# Altium schematic symbol library Resistors.SchLib: 129 symbols (part 1 of 3)
Pins are listed as number, name and electrical type; pins without a type are passive.

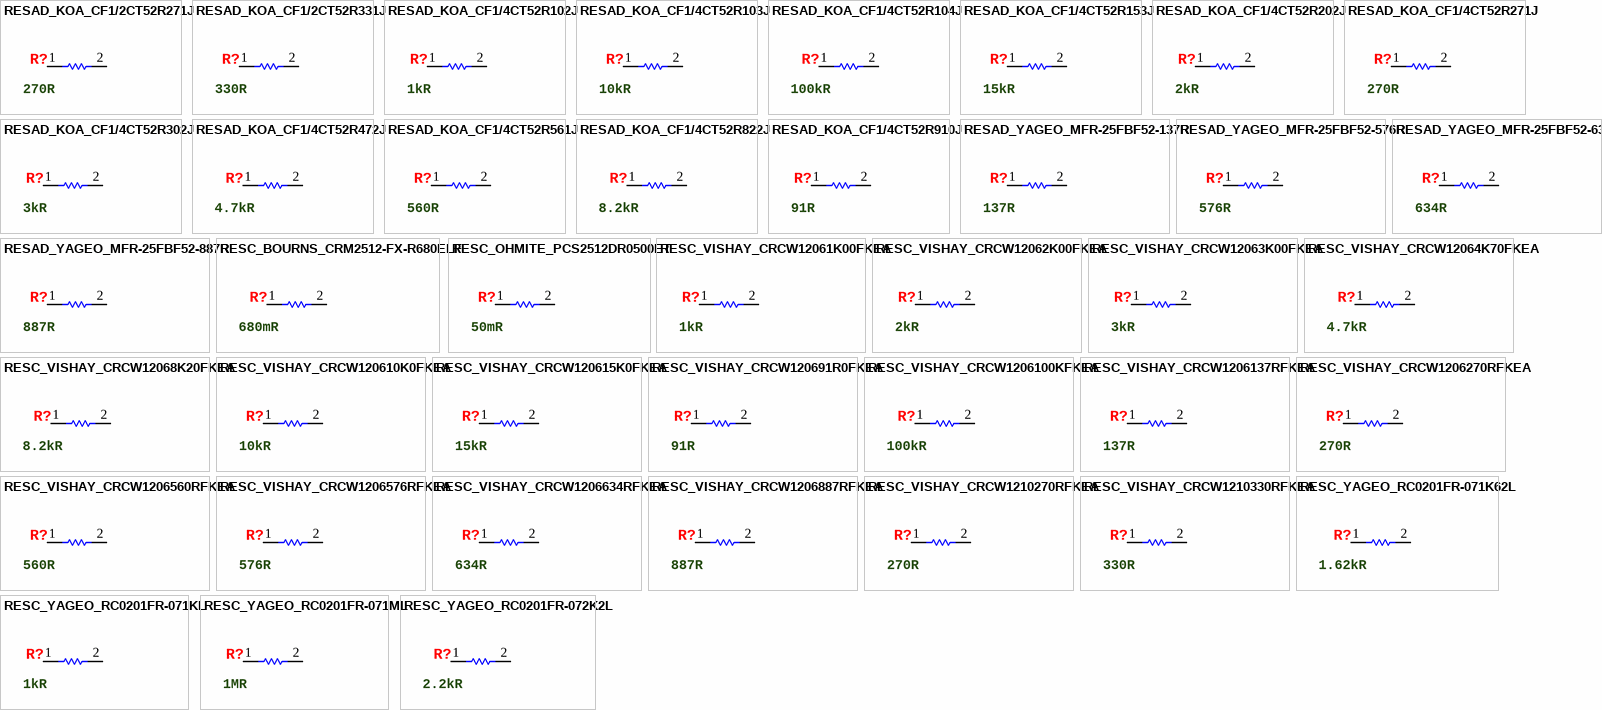
[diagram p0: symbols RESAD_KOA_CF1/2CT52R271J to RESC_YAGEO_RC0201FR-072K2L]

## RESAD_KOA_CF1/2CT52R271J
designator R?, comment 270R
270 Ohms ±5% 0.5W, 1/2W Through Hole Resistor Axial Carbon Film; Manufacturer: KOA Speer; Manufacturer Part Number: CF1/2CT52R271J; Power Rating: 500mW; Temperature Coefficient: 350ppm/°C; Voltage Rating (DC): 400V; Category: Through-Hole Resistors; Mounting Type: Through Hole; Case/Package: Axial; Min Operating Temperature: -55°C; Max Operating Temperature: 155°C; Resistance: 270R; Tolerance: 5%; Resistor Type: Carbon Film; RoHS Compliant: Yes; ComponentLink1URL: https://download.datasheets.com/pdfs/2008/05/08/urlc/koa/res46.pdf; ComponentLink1Description: Datasheet; Supplier 1: Digi-Key; Supplier 2: Mouser; Supplier Part Number 1: 2019-CF1/2CT52R271JCT-ND; Supplier Part Number 2: 660-CF1/2CT52R271J
footprint RESAD1270W70L850T300-270R (Resistor, Axial Diameter; Lead Spacing 12.70mm, Lead Width 0.7mm, Body Length 8.50mm, Body Diameter 3mm - 270 Ohm)
simulation model Resistor (Model Description)
pins: 1, 2

## RESAD_KOA_CF1/2CT52R331J
designator R?, comment 330R
330 Ohms ±5% 0.5W, 1/2W Through Hole Resistor Axial Carbon Film; Manufacturer: KOA Speer; Manufacturer Part Number: CF1/2CT52R331J; Power Rating: 500mW; Temperature Coefficient: 350ppm/°C; Voltage Rating (DC): 400V; Category: Through-Hole Resistors; Mounting Type: Through Hole; Case/Package: Axial; Min Operating Temperature: -55°C; Max Operating Temperature: 155°C; Resistance: 330R; Tolerance: 5%; Resistor Type: Carbon Film; RoHS Compliant: Yes; ComponentLink1URL: https://download.datasheets.com/pdfs/2008/05/08/urlc/koa/res46.pdf; ComponentLink1Description: Datasheet; Supplier 1: Digi-Key; Supplier 2: Mouser; Supplier Part Number 1: 2019-CF1/2CT52R331JCT-ND; Supplier Part Number 2: 660-CF1/2CT52R331J
simulation model Resistor (Model Description)
footprint RESAD1270W70L850T300-330R (Resistor, Axial Diameter; Lead Spacing 12.70mm, Lead Width 0.7mm, Body Length 8.50mm, Body Diameter 3mm - 330 Ohm)
pins: 1, 2

## RESAD_KOA_CF1/4CT52R102J
designator R?, comment 1kR
1 kOhms ±5% 0.25W, 1/4W Through Hole Resistor Axial Carbon Film; Manufacturer: KOA Speer; Manufacturer Part Number: CF1/4CT52R102J; Temperature Coefficient: 350ppm/°C; Voltage Rating (DC): 300V; Power Rating: 250mW; Category: Through-Hole Resistors; Mounting Type: Through Hole; Case/Package: Axial; Min Operating Temperature: -55°C; Max Operating Temperature: 155°C; Resistor Type: Carbon Film; Resistance: 1kR; Tolerance: 5%; ComponentLink1URL: https://download.datasheets.com/pdfs/2008/05/08/urlc/koa/res46.pdf; ComponentLink1Description: Datasheet; RoHS Compliant: Yes; Supplier 1: Digi-Key; Supplier 2: Mouser; Supplier Part Number 1: 2019-CF1/4CT52R102JCT-ND; Supplier Part Number 2: 660-CF1/4CT52R102J
simulation model Resistor (Model Description)
footprint RESAD1016W60L610T230-1KR (Resistor, Axial Diameter; Lead Spacing 10.16mm, Lead Width 0.6mm, Body Length 6.10mm, Body Diameter 2.30mm - 1K Ohm)
pins: 1, 2

## RESAD_KOA_CF1/4CT52R103J
designator R?, comment 10kR
10 kOhms ±5% 0.25W, 1/4W Through Hole Resistor Axial Carbon Film; Manufacturer: KOA Speer; Manufacturer Part Number: CF1/4CT52R103J; Power Rating: 250mW; Temperature Coefficient: 350ppm/°C; Voltage Rating (DC): 250V; Category: Through-Hole Resistors; Case/Package: Axial; Min Operating Temperature: -55°C; Max Operating Temperature: 155°C; Tolerance: 5%; Resistance: 10kR; Resistor Type: Carbon Film; RoHS Compliant: Yes; ComponentLink1URL: https://download.datasheets.com/pdfs/2008/05/08/urlc/koa/res46.pdf; ComponentLink1Description: Datasheet; Mounting Type: Through Hole; Supplier 1: Digi-Key; Supplier 2: Mouser; Supplier Part Number 1: 2019-CF1/4CT52R103JCT-ND; Supplier Part Number 2: 660-CF1/4CT52R103J
footprint RESAD1016W60L610T230-10KR (Resistor, Axial Diameter; Lead Spacing 10.16mm, Lead Width 0.6mm, Body Length 6.10mm, Body Diameter 2.30mm - 10K Ohm)
simulation model Resistor (Model Description)
pins: 1, 2

## RESAD_KOA_CF1/4CT52R104J
designator R?, comment 100kR
100 kOhms ±5% 0.25W, 1/4W Through Hole Resistor Axial Carbon Film; Manufacturer: KOA Speer; Manufacturer Part Number: CF1/4CT52R104J; Voltage Rating (DC): 250V; Temperature Coefficient: 350ppm/°C; Power Rating: 250mW; Category: Through-Hole Resistors; Case/Package: Axial; Min Operating Temperature: -55°C; Max Operating Temperature: 155°C; Resistance: 100kR; Tolerance: 5%; ComponentLink1URL: https://download.datasheets.com/pdfs/2008/05/08/urlc/koa/res46.pdf; ComponentLink1Description: Datasheet; Mounting Type: Through Hole; Resistor Type: Carbon Film; RoHS Compliant: Yes; Supplier 1: Digi-Key; Supplier 2: Mouser; Supplier Part Number 1: 2019-CF1/4CT52R104JCT-ND; Supplier Part Number 2: 660-CF1/4CT52R104J
simulation model Resistor (Model Description)
footprint RESAD1016W60L610T230-100KR (Resistor, Axial Diameter; Lead Spacing 10.16mm, Lead Width 0.6mm, Body Length 6.10mm, Body Diameter 2.30mm - 100K Ohm)
pins: 1, 2

## RESAD_KOA_CF1/4CT52R153J
designator R?, comment 15kR
15 kOhms ±5% 0.25W, 1/4W Through Hole Resistor Axial Carbon Film; Manufacturer: KOA Speer; Manufacturer Part Number: CF1/4CT52R153J; Power Rating: 250mW; Temperature Coefficient: 350ppm/°C; Voltage Rating (DC): 250V; Category: Through-Hole Resistors; Case/Package: Axial; Min Operating Temperature: -55°C; Max Operating Temperature: 155°C; Resistance: 15kR; Tolerance: 5%; Resistor Type: Carbon Film; RoHS Compliant: Yes; ComponentLink1URL: https://download.datasheets.com/pdfs/2008/05/08/urlc/koa/res46.pdf; ComponentLink1Description: Datasheet; Mounting Type: Through Hole; Supplier 1: Digi-Key; Supplier 2: Mouser; Supplier Part Number 1: 2019-CF1/4CT52R153JCT-ND; Supplier Part Number 2: 660-CF1/4CT52R153J
footprint RESAD1016W60L610T230-15KR (Resistor, Axial Diameter; Lead Spacing 10.16mm, Lead Width 0.6mm, Body Length 6.10mm, Body Diameter 2.30mm - 15K Ohm)
simulation model Resistor (Model Description)
pins: 1, 2

## RESAD_KOA_CF1/4CT52R202J
designator R?, comment 2kR
2 kOhms ±5% 0.25W, 1/4W Through Hole Resistor Axial Carbon Film; Manufacturer: KOA Speer; Manufacturer Part Number: CF1/4CT52R202J; Power Rating: 250mW; Temperature Coefficient: 350ppm/°C; Voltage Rating (DC): 250V; Category: Through-Hole Resistors; Case/Package: Axial; Min Operating Temperature: -55°C; Max Operating Temperature: 155°C; Resistance: 2kR; Tolerance: 5%; Resistor Type: Carbon Film; RoHS Compliant: Yes; ComponentLink1URL: https://download.datasheets.com/pdfs/2008/05/08/urlc/koa/res46.pdf; ComponentLink1Description: Datasheet; Mounting Type: Through Hole; Supplier 1: Digi-Key; Supplier 2: Mouser; Supplier Part Number 1: 2019-CF1/4CT52R202JCT-ND; Supplier Part Number 2: 660-CF1/4CT52R202J
simulation model Resistor (Model Description)
footprint RESAD1016W60L610T230-2KR (Resistor, Axial Diameter; Lead Spacing 10.16mm, Lead Width 0.6mm, Body Length 6.10mm, Body Diameter 2.30mm - 2K Ohm)
pins: 1, 2

## RESAD_KOA_CF1/4CT52R271J
designator R?, comment 270R
270 Ohms ±5% 0.25W, 1/4W Through Hole Resistor Axial Carbon Film; Manufacturer: KOA Speer; Manufacturer Part Number: CF1/4CT52R271J; Power Rating: 250mW; Temperature Coefficient: 350ppm/°C; Voltage Rating (DC): 250V; Category: Through-Hole Resistors; Case/Package: Axial; Min Operating Temperature: -55°C; Max Operating Temperature: 155°C; Resistance: 270R; Tolerance: 5%; Resistor Type: Carbon Film; RoHS Compliant: Yes; ComponentLink1URL: https://download.datasheets.com/pdfs/2008/05/08/urlc/koa/res46.pdf; ComponentLink1Description: Datasheet; Mounting Type: Through Hole; Supplier 1: Digi-Key; Supplier 2: Mouser; Supplier Part Number 1: 2019-CF1/4CT52R271JCT-ND; Supplier Part Number 2: 660-CF1/4CT52R271J
footprint RESAD1016W60L610T230-270R (Resistor, Axial Diameter; Lead Spacing 10.16mm, Lead Width 0.6mm, Body Length 6.10mm, Body Diameter 2.30mm - 270 Ohm)
simulation model Resistor (Model Description)
pins: 1, 2

## RESAD_KOA_CF1/4CT52R302J
designator R?, comment 3kR
3 kOhms ±5% 0.25W, 1/4W Through Hole Resistor Axial Carbon Film; Manufacturer: KOA Speer; Manufacturer Part Number: CF1/4CT52R302J; Power Rating: 250mW; Temperature Coefficient: 350ppm/°C; Voltage Rating (DC): 250V; Category: Through-Hole Resistors; Case/Package: Axial; Min Operating Temperature: -55°C; Max Operating Temperature: 155°C; Resistance: 3kR; Tolerance: 5%; Resistor Type: Carbon Film; RoHS Compliant: Yes; ComponentLink1URL: https://download.datasheets.com/pdfs/2008/05/08/urlc/koa/res46.pdf; ComponentLink1Description: Datasheet; Mounting Type: Through Hole; Supplier 1: Digi-Key; Supplier 2: Mouser; Supplier Part Number 1: 2019-CF1/4CT52R302JCT-ND; Supplier Part Number 2: 660-CF1/4CT52R302J
simulation model Resistor (Model Description)
footprint RESAD1016W60L610T230-3KR (Resistor, Axial Diameter; Lead Spacing 10.16mm, Lead Width 0.6mm, Body Length 6.10mm, Body Diameter 2.30mm - 3.3 KOhm)
pins: 1, 2

## RESAD_KOA_CF1/4CT52R472J
designator R?, comment 4.7kR
4.7 kOhms ±5% 0.25W, 1/4W Through Hole Resistor Axial Carbon Film; Manufacturer: KOA Speer; Manufacturer Part Number: CF1/4CT52R472J; Power Rating: 250mW; Temperature Coefficient: 350ppm/°C; Voltage Rating (DC): 250V; Category: Through-Hole Resistors; Case/Package: Axial; Min Operating Temperature: -55°C; Max Operating Temperature: 155°C; Resistance: 4.7kR; Tolerance: 5%; Resistor Type: Carbon Film; RoHS Compliant: Yes; ComponentLink1URL: https://download.datasheets.com/pdfs/2008/05/08/urlc/koa/res46.pdf; ComponentLink1Description: Datasheet; Mounting Type: Through Hole; Supplier 1: Digi-Key; Supplier 2: Mouser; Supplier Part Number 1: 2019-CF1/4CT52R472JCT-ND; Supplier Part Number 2: 660-CF1/4CT52R472J
footprint RESAD1016W60L610T230-4.7KR (Resistor, Axial Diameter; Lead Spacing 10.16mm, Lead Width 0.6mm, Body Length 6.10mm, Body Diameter 2.30mm - 4.7 KOhm)
simulation model Resistor (Model Description)
pins: 1, 2

## RESAD_KOA_CF1/4CT52R561J
designator R?, comment 560R
560 Ohms ±5% 0.25W, 1/4W Through Hole Resistor Axial Carbon Film; Manufacturer: KOA Speer; Manufacturer Part Number: CF1/4CT52R561J; Power Rating: 250mW; Temperature Coefficient: 350ppm/°C; Voltage Rating (DC): 250V; Category: Through-Hole Resistors; Case/Package: Axial; Min Operating Temperature: -55°C; Max Operating Temperature: 155°C; Resistance: 560R; Tolerance: 5%; Resistor Type: Carbon Film; RoHS Compliant: Yes; ComponentLink1URL: https://download.datasheets.com/pdfs/2008/05/08/urlc/koa/res46.pdf; ComponentLink1Description: Datasheet; Mounting Type: Through Hole; Supplier 1: Digi-Key; Supplier 2: Mouser; Supplier Part Number 1: 2019-CF1/4CT52R561JCT-ND; Supplier Part Number 2: 660-CF1/4CT52R561J
simulation model Resistor (Model Description)
footprint RESAD1016W60L610T230-560R (Resistor, Axial Diameter; Lead Spacing 10.16mm, Lead Width 0.6mm, Body Length 6.10mm, Body Diameter 2.30mm - 560 Ohm)
pins: 1, 2

## RESAD_KOA_CF1/4CT52R822J
designator R?, comment 8.2kR
8.2 kOhms ±5% 0.25W, 1/4W Through Hole Resistor Axial Carbon Film; Manufacturer: KOA Speer; Manufacturer Part Number: CF1/4CT52R822J; Power Rating: 250mW; Temperature Coefficient: 350ppm/°C; Voltage Rating (DC): 250V; Category: Through-Hole Resistors; Case/Package: Axial; Min Operating Temperature: -55°C; Max Operating Temperature: 155°C; Resistance: 8.2kR; Tolerance: 5%; Resistor Type: Carbon Film; RoHS Compliant: Yes; ComponentLink1URL: https://download.datasheets.com/pdfs/2008/05/08/urlc/koa/res46.pdf; ComponentLink1Description: Datasheet; Mounting Type: Through Hole; Supplier 1: Digi-Key; Supplier 2: Mouser; Supplier Part Number 1: 2019-CF1/4CT52R822JCT-ND; Supplier Part Number 2: 660-CF1/4CT52R822J
footprint RESAD1016W60L610T230-8.2KR (Resistor, Axial Diameter; Lead Spacing 10.16mm, Lead Width 0.6mm, Body Length 6.10mm, Body Diameter 2.30mm - 8.2K Ohm)
simulation model Resistor (Model Description)
pins: 1, 2

## RESAD_KOA_CF1/4CT52R910J
designator R?, comment 91R
91 Ohms ±5% 0.25W, 1/4W Through Hole Resistor Axial Carbon Film; Manufacturer: KOA Speer; Manufacturer Part Number: CF1/4CT52R910J; Power Rating: 250mW; Temperature Coefficient: 350ppm/°C; Voltage Rating (DC): 250V; Category: Through-Hole Resistors; Min Operating Temperature: -55°C; Max Operating Temperature: 155°C; Resistance: 91R; Tolerance: 5%; Resistor Type: Carbon Film; RoHS Compliant: Yes; ComponentLink1URL: https://download.datasheets.com/pdfs/2008/05/08/urlc/koa/res46.pdf; ComponentLink1Description: Datasheet; Case/Package: Axial; Mounting Type: Through Hole; Supplier 1: Digi-Key; Supplier 2: Mouser; Supplier Part Number 1: 2019-CF1/4CT52R910JCT-ND; Supplier Part Number 2: 660-CF1/4CT52R910J
simulation model Resistor (Model Description)
footprint RESAD1016W60L610T230-91R (Resistor, Axial Diameter; Lead Spacing 10.16mm, Lead Width 0.6mm, Body Length 6.10mm, Body Diameter 2.30mm - 100 Ohm)
pins: 1, 2

## RESAD_YAGEO_MFR-25FBF52-137R
designator R?, comment 137R
137 Ohms ±1% 0.25W, 1/4W Through Hole Resistor Axial Metal Film; Manufacturer: Yageo; Manufacturer Part Number: MFR-25FBF52-137R; Voltage Rating (DC): 200V; Power Rating: 250mW; Temperature Coefficient: 100ppm/°C; Category: Through-Hole Resistors; Case/Package: Axial; Min Operating Temperature: -55°C; Max Operating Temperature: 155°C; Resistance: 137R; Tolerance: 1%; Resistor Type: Metal Film; ComponentLink1URL: https://www.yageo.com/upload/media/product/productsearch/datasheet/lr/YAGEO%20MFR_datasheet_2021v1.pdf; ComponentLink1Description: Datasheet; Mounting Type: Through Hole; Supplier 1: Digi-Key; Supplier 2: Mouser; Supplier Part Number 1: 137XBK-ND; Supplier Part Number 2: 603-MFR-25FBF52-137R; RoHS Compliant: Yes
simulation model Resistor (Model Description)
footprint RESAD762W60L630T240-137R-1% (Resistor, Axial Diameter; Lead Spacing 7.62mm, Lead Width 0.6mm, Body Length 6.30mm, Body Diameter 2.40mm - 137 Ohm 1% Tolerance)
pins: 1, 2

## RESAD_YAGEO_MFR-25FBF52-576R
designator R?, comment 576R
576 Ohms ±1% 0.25W, 1/4W Through Hole Resistor Axial Metal Film; Manufacturer: Yageo; Manufacturer Part Number: MFR-25FBF52-576R; Power Rating: 250mW; Voltage Rating (DC): 200V; Temperature Coefficient: 100ppm/°C; Category: Through-Hole Resistors; Case/Package: Axial; Min Operating Temperature: -55°C; Max Operating Temperature: 155°C; Resistance: 576R; Tolerance: 1%; Resistor Type: Metal Film; ComponentLink1URL: https://www.yageo.com/upload/media/product/productsearch/datasheet/lr/YAGEO%20MFR_datasheet_2021v1.pdf; ComponentLink1Description: Datasheet; Mounting Type: Through Hole; RoHS Compliant: Yes; Supplier 1: Digi-Key; Supplier 2: Mouser; Supplier Part Number 1: 576XBK-ND; Supplier Part Number 2: 603-MFR-25FBF52-576R
footprint RESAD762W60L630T240-576R-1% (Resistor, Axial Diameter; Lead Spacing 7.62mm, Lead Width 0.6mm, Body Length 6.30mm, Body Diameter 2.40mm - 576 Ohm 1% Tolerance)
simulation model Resistor (Model Description)
pins: 1, 2

## RESAD_YAGEO_MFR-25FBF52-634R
designator R?, comment 634R
634 Ohms ±1% 0.25W, 1/4W Through Hole Resistor Axial Metal Film; Manufacturer: Yageo; Manufacturer Part Number: MFR-25FBF52-634R; Power Rating: 250mW; Temperature Coefficient: 100ppm/°C; Voltage Rating (DC): 200V; Category: Through-Hole Resistors; Case/Package: Axial; Min Operating Temperature: -55°C; Max Operating Temperature: 155°C; Resistance: 634R; Tolerance: 1%; Resistor Type: Metal Film; RoHS Compliant: Yes; ComponentLink1URL: https://www.yageo.com/upload/media/product/productsearch/datasheet/lr/YAGEO%20MFR_datasheet_2021v1.pdf; ComponentLink1Description: Datasheet; Mounting Type: Through Hole; Supplier 1: Digi-Key; Supplier 2: Mouser; Supplier Part Number 1: 634XBK-ND; Supplier Part Number 2: 603-MFR-25FBF52-634R
simulation model Resistor (Model Description)
footprint RESAD762W60L630T240-634R-1% (Resistor, Axial Diameter; Lead Spacing 7.62mm, Lead Width 0.6mm, Body Length 6.30mm, Body Diameter 2.40mm - 634 Ohm 1% Tolerance)
pins: 1, 2

## RESAD_YAGEO_MFR-25FBF52-887R
designator R?, comment 887R
887 Ohms ±1% 0.25W, 1/4W Through Hole Resistor Axial Metal Film; Manufacturer: Yageo; Manufacturer Part Number: MFR-25FBF52-887R; Voltage Rating (DC): 200V; Power Rating: 250mW; Temperature Coefficient: 100ppm/°C; Category: Through-Hole Resistors; Case/Package: Axial; Min Operating Temperature: -55°C; Max Operating Temperature: 155°C; Resistance: 887R; Tolerance: 1%; Resistor Type: Metal Film; ComponentLink1URL: https://www.yageo.com/upload/media/product/productsearch/datasheet/lr/YAGEO%20MFR_datasheet_2021v1.pdf; ComponentLink1Description: Datasheet; Mounting Type: Through Hole; RoHS Compliant: Yes; Supplier 1: Digi-Key; Supplier 2: Mouser; Supplier Part Number 1: 13-MFR-25FBF52-887R-ND; Supplier Part Number 2: 603-MFR-25FBF52-887R
footprint RESAD762W60L630T240-887R-1% (Resistor, Axial Diameter; Lead Spacing 7.62mm, Lead Width 0.6mm, Body Length 6.30mm, Body Diameter 2.40mm - 887 Ohm 1% Tolerance)
simulation model Resistor (Model Description)
pins: 1, 2

## RESC_BOURNS_CRM2512-FX-R680ELF
designator R?, comment 680mR
680 mOhms ±1% 2W Chip Resistor 2512 (6432 Metric) Current Sense Thick Film; Manufacturer: Bourns; Manufacturer Part Number: CRM2512-FX-R680ELF; Temperature Coefficient: 100ppm/°C; Voltage Rating (DC): 300V; Current Rating: 2A; Category: Chip SMD Resistors; Case/Package: 2512; Min Operating Temperature: -55°C; Max Operating Temperature: 155°C; Resistance: 680mR; Tolerance: 1%; Power Rating: 2W; Resistor Type: Thick Film; RoHS Compliant: Yes; ComponentLink1URL: https://www.bourns.com/docs/product-datasheets/crm.pdf; ComponentLink1Description: Datasheet; Supplier 1: Digi-Key; Supplier 2: Mouser; Supplier Part Number 1: 118-CRM2512-FX-R680ELFCT-ND; Supplier Part Number 2: 652-CRM2512FXR680ELF; Mounting Type: SMD/SMT
footprint RESC6431X65N (Chip Resistor, EIA 2512, Metric 6432, Body 6.35x3.10mm, IPC Medium Density)
footprint RESC6431X65L (Chip Resistor, EIA 2512, Metric 6432, Body 6.35x3.10mm, IPC High Density)
footprint RESC6431X65M (Chip Resistor, EIA 2512, Metric 6432, Body 6.35x3.10mm, IPC Low Density)
simulation model Resistor (Model Description)
pins: 1, 2

## RESC_OHMITE_PCS2512DR0500ET
designator R?, comment 50mR
50 mOhms ±0.5% 2W Chip Resistor 2512 (6432 Metric) Current Sense Metal Film; Manufacturer: Ohmite; Manufacturer Part Number: PCS2512DR0500ET; Temperature Coefficient: 50ppm/°C; Current Rating: 2A; Category: Chip SMD Resistors; ComponentLink1Description: Datasheet; ComponentLink1URL: https://www.ohmite.com/assets/docs/res_pcs.pdf?r=false; Max Operating Temperature: 170°C; Min Operating Temperature: -55°C; Power Rating: 2W; Resistance: 50mR; Resistor Type: Metal Film; Tolerance: 0.5%; RoHS Compliant: Yes; Case/Package: 2512; Supplier 1: Digi-Key; Supplier Part Number 1: 273-PCS2512DR0500ETCT-ND; Supplier 2: Mouser; Supplier Part Number 2: 588-PCS2512DR0500ET; Mounting Type: SMD/SMT
footprint RESC6431X65N (Chip Resistor, EIA 2512, Metric 6432, Body 6.35x3.10mm, IPC Medium Density)
footprint RESC6431X65M (Chip Resistor, EIA 2512, Metric 6432, Body 6.35x3.10mm, IPC Low Density)
footprint RESC6431X65L (Chip Resistor, EIA 2512, Metric 6432, Body 6.35x3.10mm, IPC High Density)
simulation model Resistor (Model Description)
pins: 1, 2

## RESC_VISHAY_CRCW12061K00FKEA
designator R?, comment 1kR
1 kOhms ±1% 0.25W, 1/4W Chip Resistor 1206 (3216 Metric) Automotive AEC-Q200 Thick Film; Manufacturer: Vishay; Manufacturer Part Number: CRCW12061K00FKEA; Temperature Coefficient: 100ppm/°C; Power Rating: 250mW; Voltage Rating (DC): 200V; Category: Chip SMD Resistors; Case/Package: 1206; Min Operating Temperature: -55°C; Max Operating Temperature: 155°C; Tolerance: 1%; Resistor Type: Thick Film; Resistance: 1kR; RoHS Compliant: Yes; ComponentLink1URL: https://www.vishay.com/docs/20035/dcrcwe3.pdf; ComponentLink1Description: Datasheet; Mounting Type: SMD/SMT; Supplier 1: Digi-Key; Supplier 2: Mouser; Supplier Part Number 1: 541-1.00KFCT-ND; Supplier Part Number 2: 71-CRCW1206-1.0K-E3
simulation model Resistor (Model Description)
footprint RESC3216X60N (Chip Resistor, 2-Leads, Body 3.15x1.60mm, IPC Medium Density)
footprint RESC3216X60L (Chip Resistor, 2-Leads, Body 3.15x1.60mm, IPC High Density)
footprint RESC3216X60M (Chip Resistor, 2-Leads, Body 3.15x1.60mm, IPC Low Density)
pins: 1, 2

## RESC_VISHAY_CRCW12062K00FKEA
designator R?, comment 2kR
2 kOhms ±1% 0.25W, 1/4W Chip Resistor 1206 (3216 Metric) Automotive AEC-Q200 Thick Film; Manufacturer: Vishay; Manufacturer Part Number: CRCW12062K00FKEA; Temperature Coefficient: 100ppm/°C; Power Rating: 250mW; Voltage Rating (DC): 200V; Category: Chip SMD Resistors; Case/Package: 1206; Min Operating Temperature: -55°C; Max Operating Temperature: 155°C; Tolerance: 1%; Resistance: 2kR; Resistor Type: Thick Film; RoHS Compliant: Yes; ComponentLink1URL: https://www.vishay.com/docs/20035/dcrcwe3.pdf; ComponentLink1Description: Datasheet; Mounting Type: SMD/SMT; Supplier 1: Digi-Key; Supplier 2: Mouser; Supplier Part Number 1: 541-2.00KFCT-ND; Supplier Part Number 2: 71-CRCW1206-2.0K-E3
simulation model Resistor (Model Description)
footprint RESC3216X60N (Chip Resistor, 2-Leads, Body 3.15x1.60mm, IPC Medium Density)
footprint RESC3216X60L (Chip Resistor, 2-Leads, Body 3.15x1.60mm, IPC High Density)
footprint RESC3216X60M (Chip Resistor, 2-Leads, Body 3.15x1.60mm, IPC Low Density)
pins: 1, 2

## RESC_VISHAY_CRCW12063K00FKEA
designator R?, comment 3kR
3 kOhms ±1% 0.25W, 1/4W Chip Resistor 1206 (3216 Metric) Automotive AEC-Q200 Thick Film; Manufacturer: Vishay; Manufacturer Part Number: CRCW12063K00FKEA; Power Rating: 250mW; Temperature Coefficient: 100ppm/°C; Voltage Rating (DC): 200V; Category: Chip SMD Resistors; Case/Package: 1206; Min Operating Temperature: -55°C; Max Operating Temperature: 155°C; Resistance: 3kR; Tolerance: 1%; Resistor Type: Thick Film; ComponentLink1URL: https://www.vishay.com/docs/20035/dcrcwe3.pdf; ComponentLink1Description: Datasheet; Mounting Type: SMD/SMT; RoHS Compliant: Yes; Supplier 1: Digi-Key; Supplier 2: Mouser; Supplier Part Number 1: 541-3.00KFCT-ND; Supplier Part Number 2: 71-CRCW1206-3K-E3
footprint RESC3216X60N (Chip Resistor, 2-Leads, Body 3.15x1.60mm, IPC Medium Density)
footprint RESC3216X60L (Chip Resistor, 2-Leads, Body 3.15x1.60mm, IPC High Density)
footprint RESC3216X60M (Chip Resistor, 2-Leads, Body 3.15x1.60mm, IPC Low Density)
simulation model Resistor (Model Description)
pins: 1, 2

## RESC_VISHAY_CRCW12064K70FKEA
designator R?, comment 4.7kR
4.7 kOhms ±1% 0.25W, 1/4W Chip Resistor 1206 (3216 Metric) Automotive AEC-Q200 Thick Film; Manufacturer: Vishay; Manufacturer Part Number: CRCW12064K70FKEA; Power Rating: 250mW; Temperature Coefficient: 100ppm/°C; Voltage Rating (DC): 200V; Category: Chip SMD Resistors; Case/Package: 1206; Min Operating Temperature: -55°C; Max Operating Temperature: 155°C; Tolerance: 1%; Resistance: 4.7kR; Resistor Type: Thick Film; RoHS Compliant: Yes; ComponentLink1Description: Datasheet; ComponentLink1URL: https://www.vishay.com/docs/20035/dcrcwe3.pdf; Mounting Type: SMD/SMT; Supplier 1: Digi-Key; Supplier 2: Mouser; Supplier Part Number 1: 541-4.70KFCT-ND; Supplier Part Number 2: 71-CRCW1206-4.7K-E3
simulation model Resistor (Model Description)
footprint RESC3216X60N (Chip Resistor, 2-Leads, Body 3.15x1.60mm, IPC Medium Density)
footprint RESC3216X60L (Chip Resistor, 2-Leads, Body 3.15x1.60mm, IPC High Density)
footprint RESC3216X60M (Chip Resistor, 2-Leads, Body 3.15x1.60mm, IPC Low Density)
pins: 1, 2

## RESC_VISHAY_CRCW12068K20FKEA
designator R?, comment 8.2kR
8.2 kOhms ±1% 0.25W, 1/4W Chip Resistor 1206 (3216 Metric) Automotive AEC-Q200 Thick Film; Manufacturer: Vishay; Manufacturer Part Number: CRCW12068K20FKEA; Power Rating: 250mW; Temperature Coefficient: 100ppm/°C; Voltage Rating (DC): 200V; Category: Chip SMD Resistors; Case/Package: 1206; Min Operating Temperature: -55°C; Max Operating Temperature: 155°C; Resistance: 8.2kR; Tolerance: 1%; Resistor Type: Thick Film; RoHS Compliant: Yes; ComponentLink1Description: Datasheet; ComponentLink1URL: https://www.vishay.com/docs/20035/dcrcwe3.pdf; Mounting Type: SMD/SMT; Supplier 1: Digi-Key; Supplier 2: Mouser; Supplier Part Number 1: 541-8.20KFCT-ND; Supplier Part Number 2: 71-CRCW1206-8.2K-E3
footprint RESC3216X60N (Chip Resistor, 2-Leads, Body 3.15x1.60mm, IPC Medium Density)
footprint RESC3216X60L (Chip Resistor, 2-Leads, Body 3.15x1.60mm, IPC High Density)
footprint RESC3216X60M (Chip Resistor, 2-Leads, Body 3.15x1.60mm, IPC Low Density)
simulation model Resistor (Model Description)
pins: 1, 2

## RESC_VISHAY_CRCW120610K0FKEA
designator R?, comment 10kR
10 kOhms ±1% 0.25W, 1/4W Chip Resistor 1206 (3216 Metric) Automotive AEC-Q200 Thick Film; Manufacturer: Vishay; Manufacturer Part Number: CRCW120610K0FKEAHP; Power Rating: 500mW; Temperature Coefficient: 100ppm/°C; Voltage Rating (DC): 200V; Category: Chip SMD Resistors; Case/Package: 1206; Min Operating Temperature: -55°C; Max Operating Temperature: 155°C; Resistance: 10kR; Tolerance: 1%; Resistor Type: Thick Film; RoHS Compliant: Yes; ComponentLink1Description: Datasheet; ComponentLink1URL: https://www.vishay.com/docs/20035/dcrcwe3.pdf; Mounting Type: SMD/SMT; Supplier 1: Digi-Key; Supplier 2: Mouser; Supplier Part Number 1: 541-10.0KFCT-ND; Supplier Part Number 2: 71-CRCW1206-10K-E3
simulation model Resistor (Model Description)
footprint RESC3216X60N (Chip Resistor, 2-Leads, Body 3.15x1.60mm, IPC Medium Density)
footprint RESC3216X60L (Chip Resistor, 2-Leads, Body 3.15x1.60mm, IPC High Density)
footprint RESC3216X60M (Chip Resistor, 2-Leads, Body 3.15x1.60mm, IPC Low Density)
pins: 1, 2

## RESC_VISHAY_CRCW120615K0FKEA
designator R?, comment 15kR
15 kOhms ±1% 0.25W, 1/4W Chip Resistor 1206 (3216 Metric) Automotive AEC-Q200 Thick Film; Manufacturer: Vishay; Manufacturer Part Number: CRCW120615K0FKEA; Temperature Coefficient: 100ppm/°C; Power Rating: 250mW; Voltage Rating (DC): 200V; Category: Chip SMD Resistors; Case/Package: 1206; Min Operating Temperature: -55°C; Max Operating Temperature: 155°C; Resistor Type: Thick Film; Tolerance: 1%; Resistance: 15kR; RoHS Compliant: Yes; ComponentLink1Description: Datasheet; ComponentLink1URL: https://www.vishay.com/docs/20035/dcrcwe3.pdf; Mounting Type: SMD/SMT; Supplier 1: Digi-Key; Supplier 2: Mouser; Supplier Part Number 1: 541-15.0KFCT-ND; Supplier Part Number 2: 71-CRCW1206-15K-E3
footprint RESC3216X60N (Chip Resistor, 2-Leads, Body 3.15x1.60mm, IPC Medium Density)
footprint RESC3216X60L (Chip Resistor, 2-Leads, Body 3.15x1.60mm, IPC High Density)
footprint RESC3216X60M (Chip Resistor, 2-Leads, Body 3.15x1.60mm, IPC Low Density)
simulation model Resistor (Model Description)
pins: 1, 2

## RESC_VISHAY_CRCW120691R0FKEA
designator R?, comment 91R
91 Ohms ±1% 0.25W, 1/4W Chip Resistor 1206 (3216 Metric) Automotive AEC-Q200 Thick Film; Manufacturer: Vishay; Manufacturer Part Number: CRCW120691R0FKEA; Power Rating: 250mW; Temperature Coefficient: 100ppm/°C; Voltage Rating (DC): 200V; Category: Chip SMD Resistors; Case/Package: 1206; Min Operating Temperature: -55°C; Max Operating Temperature: 155°C; Resistance: 91R; Tolerance: 1%; Resistor Type: Thick Film; RoHS Compliant: Yes; ComponentLink1Description: Datasheet; ComponentLink1URL: https://www.vishay.com/docs/20035/dcrcwe3.pdf; Mounting Type: SMD/SMT; Supplier 1: Digi-Key; Supplier 2: Mouser; Supplier Part Number 1: 541-91.0FCT-ND; Supplier Part Number 2: 71-CRCW1206-91-E3
simulation model Resistor (Model Description)
footprint RESC3216X60N (Chip Resistor, 2-Leads, Body 3.15x1.60mm, IPC Medium Density)
footprint RESC3216X60L (Chip Resistor, 2-Leads, Body 3.15x1.60mm, IPC High Density)
footprint RESC3216X60M (Chip Resistor, 2-Leads, Body 3.15x1.60mm, IPC Low Density)
pins: 1, 2

## RESC_VISHAY_CRCW1206100KFKEA
designator R?, comment 100kR
100 kOhms ±1% 0.25W, 1/4W Chip Resistor 1206 (3216 Metric) Automotive AEC-Q200 Thick Film; Manufacturer: Vishay; Manufacturer Part Number: CRCW1206100KFKEAHP; Temperature Coefficient: 100ppm/°C; Power Rating: 500mW; Voltage Rating (DC): 200V; Category: Chip SMD Resistors; Case/Package: 1206; Min Operating Temperature: -55°C; Max Operating Temperature: 155°C; Resistance: 100kR; Tolerance: 1%; Resistor Type: Thick Film; RoHS Compliant: Yes; ComponentLink1Description: Datasheet; ComponentLink1URL: https://www.vishay.com/docs/20035/dcrcwe3.pdf; Mounting Type: SMD/SMT; Supplier 1: Digi-Key; Supplier 2: Mouser; Supplier Part Number 1: 541-100KFCT-ND; Supplier Part Number 2: 71-CRCW1206-100K-E3
footprint RESC3216X60N (Chip Resistor, 2-Leads, Body 3.15x1.60mm, IPC Medium Density)
footprint RESC3216X60L (Chip Resistor, 2-Leads, Body 3.15x1.60mm, IPC High Density)
footprint RESC3216X60M (Chip Resistor, 2-Leads, Body 3.15x1.60mm, IPC Low Density)
simulation model Resistor (Model Description)
pins: 1, 2

## RESC_VISHAY_CRCW1206137RFKEA
designator R?, comment 137R
137 Ohms ±1% 0.25W, 1/4W Chip Resistor 1206 (3216 Metric) Automotive AEC-Q200 Thick Film; Manufacturer: Vishay; Manufacturer Part Number: CRCW1206137RFKEA; Power Rating: 250mW; Temperature Coefficient: 100ppm/°C; Voltage Rating (DC): 200V; Category: Chip SMD Resistors; Case/Package: 1206; Min Operating Temperature: -55°C; Max Operating Temperature: 155°C; Resistance: 137R; Tolerance: 1%; Resistor Type: Thick Film; RoHS Compliant: Yes; ComponentLink1Description: Datasheet; ComponentLink1URL: https://www.vishay.com/docs/20035/dcrcwe3.pdf; Mounting Type: SMD/SMT; Supplier 1: Digi-Key; Supplier 2: Mouser; Supplier Part Number 1: 541-137FCT-ND; Supplier Part Number 2: 71-CRCW1206-137-E3
simulation model Resistor (Model Description)
footprint RESC3216X60N (Chip Resistor, 2-Leads, Body 3.15x1.60mm, IPC Medium Density)
footprint RESC3216X60L (Chip Resistor, 2-Leads, Body 3.15x1.60mm, IPC High Density)
footprint RESC3216X60M (Chip Resistor, 2-Leads, Body 3.15x1.60mm, IPC Low Density)
pins: 1, 2

## RESC_VISHAY_CRCW1206270RFKEA
designator R?, comment 270R
270 Ohms ±1% 0.25W, 1/4W Chip Resistor 1206 (3216 Metric) Automotive AEC-Q200 Thick Film; Manufacturer: Vishay; Manufacturer Part Number: CRCW1206270RFKEAHP; Power Rating: 500mW; Temperature Coefficient: 100ppm/°C; Voltage Rating (DC): 200V; Category: Chip SMD Resistors; Case/Package: 1206; Min Operating Temperature: -55°C; Max Operating Temperature: 155°C; Resistance: 270R; Tolerance: 1%; Resistor Type: Thick Film; RoHS Compliant: Yes; ComponentLink1Description: Datasheet; ComponentLink1URL: https://www.vishay.com/docs/20035/dcrcwe3.pdf; Mounting Type: SMD/SMT; Supplier 1: Digi-Key; Supplier 2: Mouser; Supplier Part Number 1: 541-270FCT-ND; Supplier Part Number 2: 71-CRCW1206-270-E3
footprint RESC3216X60N (Chip Resistor, 2-Leads, Body 3.15x1.60mm, IPC Medium Density)
footprint RESC3216X60L (Chip Resistor, 2-Leads, Body 3.15x1.60mm, IPC High Density)
footprint RESC3216X60M (Chip Resistor, 2-Leads, Body 3.15x1.60mm, IPC Low Density)
simulation model Resistor (Model Description)
pins: 1, 2

## RESC_VISHAY_CRCW1206560RFKEA
designator R?, comment 560R
560 Ohms ±1% 0.25W, 1/4W Chip Resistor 1206 (3216 Metric) Automotive AEC-Q200 Thick Film; Manufacturer: Vishay; Manufacturer Part Number: CRCW1206560RFKEA; Temperature Coefficient: 100ppm/°C; Power Rating: 250mW; Voltage Rating (DC): 200V; Category: Chip SMD Resistors; Case/Package: 1206; Min Operating Temperature: -55°C; Max Operating Temperature: 155°C; Resistor Type: Thick Film; Resistance: 560R; Tolerance: 1%; RoHS Compliant: Yes; ComponentLink1Description: Datasheet; ComponentLink1URL: https://www.vishay.com/docs/20035/dcrcwe3.pdf; Mounting Type: SMD/SMT; Supplier 1: Digi-Key; Supplier 2: Mouser; Supplier Part Number 1: 541-560FCT-ND; Supplier Part Number 2: 71-CRCW1206-560-E3
simulation model Resistor (Model Description)
footprint RESC3216X60N (Chip Resistor, 2-Leads, Body 3.15x1.60mm, IPC Medium Density)
footprint RESC3216X60L (Chip Resistor, 2-Leads, Body 3.15x1.60mm, IPC High Density)
footprint RESC3216X60M (Chip Resistor, 2-Leads, Body 3.15x1.60mm, IPC Low Density)
pins: 1, 2

## RESC_VISHAY_CRCW1206576RFKEA
designator R?, comment 576R
576 Ohms ±1% 0.25W, 1/4W Chip Resistor 1206 (3216 Metric) Automotive AEC-Q200 Thick Film; Manufacturer: Vishay; Manufacturer Part Number: CRCW1206576RFKEA; Temperature Coefficient: 100ppm/°C; Power Rating: 250mW; Voltage Rating (DC): 200V; Category: Chip SMD Resistors; Case/Package: 1206; Min Operating Temperature: -55°C; Max Operating Temperature: 155°C; Tolerance: 1%; Resistance: 576R; Resistor Type: Thick Film; RoHS Compliant: Yes; ComponentLink1Description: Datasheet; ComponentLink1URL: https://www.vishay.com/docs/20035/dcrcwe3.pdf; Mounting Type: SMD/SMT; Supplier 1: Digi-Key; Supplier 2: Mouser; Supplier Part Number 1: 541-576FCT-ND; Supplier Part Number 2: 71-CRCW1206576-E3
footprint RESC3216X60N (Chip Resistor, 2-Leads, Body 3.15x1.60mm, IPC Medium Density)
footprint RESC3216X60L (Chip Resistor, 2-Leads, Body 3.15x1.60mm, IPC High Density)
footprint RESC3216X60M (Chip Resistor, 2-Leads, Body 3.15x1.60mm, IPC Low Density)
simulation model Resistor (Model Description)
pins: 1, 2

## RESC_VISHAY_CRCW1206634RFKEA
designator R?, comment 634R
634 Ohms ±1% 0.25W, 1/4W Chip Resistor 1206 (3216 Metric) Automotive AEC-Q200 Thick Film; Manufacturer: Vishay; Manufacturer Part Number: CRCW1206634RFKEA; Temperature Coefficient: 100ppm/°C; Power Rating: 250mW; Voltage Rating (DC): 200V; Category: Chip SMD Resistors; Case/Package: 1206; Min Operating Temperature: -55°C; Max Operating Temperature: 155°C; Tolerance: 1%; Resistance: 634R; Resistor Type: Thick Film; RoHS Compliant: Yes; ComponentLink1Description: Datasheet; ComponentLink1URL: https://www.vishay.com/docs/20035/dcrcwe3.pdf; Mounting Type: SMD/SMT; Supplier 1: Digi-Key; Supplier 2: Mouser; Supplier Part Number 1: 541-634FCT-ND; Supplier Part Number 2: 71-CRCW1206-634-E3
simulation model Resistor (Model Description)
footprint RESC3216X60N (Chip Resistor, 2-Leads, Body 3.15x1.60mm, IPC Medium Density)
footprint RESC3216X60L (Chip Resistor, 2-Leads, Body 3.15x1.60mm, IPC High Density)
footprint RESC3216X60M (Chip Resistor, 2-Leads, Body 3.15x1.60mm, IPC Low Density)
pins: 1, 2

## RESC_VISHAY_CRCW1206887RFKEA
designator R?, comment 887R
887 Ohms ±1% 0.25W, 1/4W Chip Resistor 1206 (3216 Metric) Automotive AEC-Q200 Thick Film; Manufacturer: Vishay; Manufacturer Part Number: CRCW1206887RFKEA; Power Rating: 250mW; Temperature Coefficient: 100ppm/°C; Voltage Rating (DC): 200V; Category: Chip SMD Resistors; Case/Package: 1206; Min Operating Temperature: -55°C; Max Operating Temperature: 155°C; Resistance: 887R; Tolerance: 1%; Resistor Type: Thick Film; RoHS Compliant: Yes; ComponentLink1Description: Datasheet; ComponentLink1URL: https://www.vishay.com/docs/20035/dcrcwe3.pdf; Mounting Type: SMD/SMT; Supplier 1: Digi-Key; Supplier 2: Mouser; Supplier Part Number 1: 541-887FCT-ND; Supplier Part Number 2: 71-CRCW1206-887-E3
footprint RESC3216X60N (Chip Resistor, 2-Leads, Body 3.15x1.60mm, IPC Medium Density)
footprint RESC3216X60L (Chip Resistor, 2-Leads, Body 3.15x1.60mm, IPC High Density)
footprint RESC3216X60M (Chip Resistor, 2-Leads, Body 3.15x1.60mm, IPC Low Density)
simulation model Resistor (Model Description)
pins: 1, 2

## RESC_VISHAY_CRCW1210270RFKEA
designator R?, comment 270R
270 Ohms ±1% 0.5W, 1/2W Chip Resistor 1210 (3225 Metric) Automotive AEC-Q200 Thick Film; Manufacturer: Vishay; Manufacturer Part Number: CRCW1210270RFKEAHP; Power Rating: 750mW; Temperature Coefficient: 100ppm/°C; Voltage Rating (DC): 200V; Category: Chip SMD Resistors; Case/Package: 1210; Min Operating Temperature: -55°C; Max Operating Temperature: 155°C; Resistance: 270R; Tolerance: 1%; Resistor Type: Thick Film; RoHS Compliant: Yes; ComponentLink1Description: Datasheet; ComponentLink1URL: https://www.vishay.com/docs/20035/dcrcwe3.pdf; Mounting Type: SMD/SMT; Supplier 1: Digi-Key; Supplier 2: Mouser; Supplier Part Number 1: 541-270AACT-ND; Supplier Part Number 2: 71-CRCW1210270RFKEA
simulation model Resistor (Model Description)
footprint RESC3225X60N (Chip Resistor, EIA 1210, Metric 3225, Body 3.20x2.50mm, IPC Medium Density)
footprint RESC3225X60L (Chip Resistor, EIA 1210, Metric 3225, Body 3.20x2.50mm, IPC High Density)
footprint RESC3225X60M (Chip Resistor, EIA 1210, Metric 3225, Body 3.20x2.50mm, IPC Low Density)
pins: 1, 2

## RESC_VISHAY_CRCW1210330RFKEA
designator R?, comment 330R
330 Ohms ±1% 0.5W, 1/2W Chip Resistor 1210 (3225 Metric) Automotive AEC-Q200 Thick Film; Manufacturer: Vishay; Manufacturer Part Number: CRCW1210330RFKEA; Power Rating: 500mW; Temperature Coefficient: 100ppm/°C; Voltage Rating (DC): 200V; Category: Chip SMD Resistors; Case/Package: 1210; Min Operating Temperature: -55°C; Max Operating Temperature: 155°C; Tolerance: 1%; Resistance: 330R; Resistor Type: Thick Film; RoHS Compliant: Yes; ComponentLink1Description: Datasheet; ComponentLink1URL: https://www.vishay.com/docs/20035/dcrcwe3.pdf; Mounting Type: SMD/SMT; Supplier 1: Digi-Key; Supplier 2: Mouser; Supplier Part Number 1: 541-330AACT-ND; Supplier Part Number 2: 71-CRCW1210-330-E3
simulation model Resistor (Model Description)
footprint RESC3225X60N (Chip Resistor, EIA 1210, Metric 3225, Body 3.20x2.50mm, IPC Medium Density)
footprint RESC3225X60L (Chip Resistor, EIA 1210, Metric 3225, Body 3.20x2.50mm, IPC High Density)
footprint RESC3225X60M (Chip Resistor, EIA 1210, Metric 3225, Body 3.20x2.50mm, IPC Low Density)
pins: 1, 2

## RESC_YAGEO_RC0201FR-071K62L
designator R?, comment 1.62kR
1.62 kOhms ±1% 0.05W, 1/20W Chip Resistor 0201 (0603 Metric) Moisture Resistant Thick Film; Manufacturer: Yageo; Manufacturer Part Number: RC0201FR-071K62L; Power Rating: 50mW; Temperature Coefficient: 200ppm/°C; Current Rating: 500mA; Voltage Rating (DC): 25V; Category: Chip SMD Resistors; Case/Package: 0201; Min Operating Temperature: -55°C; Max Operating Temperature: 125°C; Resistance: 1.62kR; Tolerance: 1%; Resistor Type: Thick Film; RoHS Compliant: Yes; ComponentLink1URL: https://www.yageo.com/upload/media/product/productsearch/datasheet/rchip/PYu-RC_Group_51_RoHS_L_12.pdf; ComponentLink1Description: Datasheet; Supplier 1: Digi-Key; Supplier Part Number 1: YAG2334CT-ND; Supplier 2: Mouser; Supplier Part Number 2: 603-RC0201FR-071K62L; Mounting Type: SMD/SMT
footprint RESC0603X26N (Chip Resistor, EIA 0201, Metric 0603, Body 0.60x0.30mm, IPC Medium Density)
footprint RESC0603X26M (Chip Resistor, EIA 0201, Metric 0603, Body 0.60x0.30mm, IPC Low Density)
footprint RESC0603X26L (Chip Resistor, EIA 0201, Metric 0603, Body 0.60x0.30mm, IPC High Density)
simulation model Resistor (Model Description)
pins: 1, 2

## RESC_YAGEO_RC0201FR-071KL
designator R?, comment 1kR
1 kOhms ±1% 0.05W, 1/20W Chip Resistor 0201 (0603 Metric) Moisture Resistant Thick Film; Manufacturer: Yageo; Manufacturer Part Number: RC0201FR-071KL; Temperature Coefficient: 200ppm/°C; Power Rating: 50mW; Current Rating: 500mA; Voltage Rating (DC): 25V; Category: Chip SMD Resistors; Case/Package: 0201; Min Operating Temperature: -55°C; Max Operating Temperature: 125°C; Resistance: 1kR; Tolerance: 1%; Resistor Type: Thick Film; RoHS Compliant: Yes; ComponentLink1URL: https://www.yageo.com/upload/media/product/productsearch/datasheet/rchip/PYu-RC_Group_51_RoHS_L_12.pdf; ComponentLink1Description: Datasheet; Supplier 1: Digi-Key; Supplier Part Number 1: 311-1KMCT-ND; Supplier 2: Mouser; Supplier Part Number 2: 603-RC0201FR-071KL; Mounting Type: SMD/SMT
footprint RESC0603X26N (Chip Resistor, EIA 0201, Metric 0603, Body 0.60x0.30mm, IPC Medium Density)
footprint RESC0603X26L (Chip Resistor, EIA 0201, Metric 0603, Body 0.60x0.30mm, IPC High Density)
footprint RESC0603X26M (Chip Resistor, EIA 0201, Metric 0603, Body 0.60x0.30mm, IPC Low Density)
simulation model Resistor (Model Description)
pins: 1, 2

## RESC_YAGEO_RC0201FR-071ML
designator R?, comment 1MR
1 MOhms ±1% 0.05W, 1/20W Chip Resistor 0201 (0603 Metric) Moisture Resistant Thick Film; Manufacturer: Yageo; Manufacturer Part Number: RC0201FR-071ML; Temperature Coefficient: 200ppm/°C; Power Rating: 50mW; Current Rating: 500mA; Voltage Rating (DC): 25V; Category: Chip SMD Resistors; Case/Package: 0201; Min Operating Temperature: -55°C; Max Operating Temperature: 125°C; Resistance: 1MR; Tolerance: 1%; Resistor Type: Thick Film; RoHS Compliant: Yes; ComponentLink1URL: https://www.yageo.com/upload/media/product/productsearch/datasheet/rchip/PYu-RC_Group_51_RoHS_L_12.pdf; ComponentLink1Description: Datasheet; Supplier 1: Digi-Key; Supplier Part Number 1: 311-1MMCT-ND; Supplier 2: Mouser; Supplier Part Number 2: 603-RC0201FR-071ML; Mounting Type: SMD/SMT
footprint RESC0603X26N (Chip Resistor, EIA 0201, Metric 0603, Body 0.60x0.30mm, IPC Medium Density)
footprint RESC0603X26M (Chip Resistor, EIA 0201, Metric 0603, Body 0.60x0.30mm, IPC Low Density)
footprint RESC0603X26L (Chip Resistor, EIA 0201, Metric 0603, Body 0.60x0.30mm, IPC High Density)
simulation model Resistor (Model Description)
pins: 1, 2

## RESC_YAGEO_RC0201FR-072K2L
designator R?, comment 2.2kR
2.2 kOhms ±1% 0.05W, 1/20W Chip Resistor 0201 (0603 Metric) Moisture Resistant Thick Film; Manufacturer: Yageo; Manufacturer Part Number: RC0201FR-072K2L; Power Rating: 50mW; Temperature Coefficient: 200ppm/°C; Current Rating: 500mA; Voltage Rating (DC): 25V; Category: Chip SMD Resistors; Case/Package: 0201; Min Operating Temperature: -55°C; Max Operating Temperature: 125°C; Tolerance: 1%; Resistance: 2.2kR; Resistor Type: Thick Film; RoHS Compliant: Yes; ComponentLink1URL: https://www.yageo.com/upload/media/product/productsearch/datasheet/rchip/PYu-RC_Group_51_RoHS_L_12.pdf; ComponentLink1Description: Datasheet; Supplier 1: Digi-Key; Supplier 2: Mouser; Supplier Part Number 1: YAG2572CT-ND; Supplier Part Number 2: 603-RC0201FR-072K2L; Mounting Type: SMD/SMT
footprint RESC0603X26N (Chip Resistor, EIA 0201, Metric 0603, Body 0.60x0.30mm, IPC Medium Density)
footprint RESC0603X26M (Chip Resistor, EIA 0201, Metric 0603, Body 0.60x0.30mm, IPC Low Density)
footprint RESC0603X26L (Chip Resistor, EIA 0201, Metric 0603, Body 0.60x0.30mm, IPC High Density)
simulation model Resistor (Model Description)
pins: 1, 2

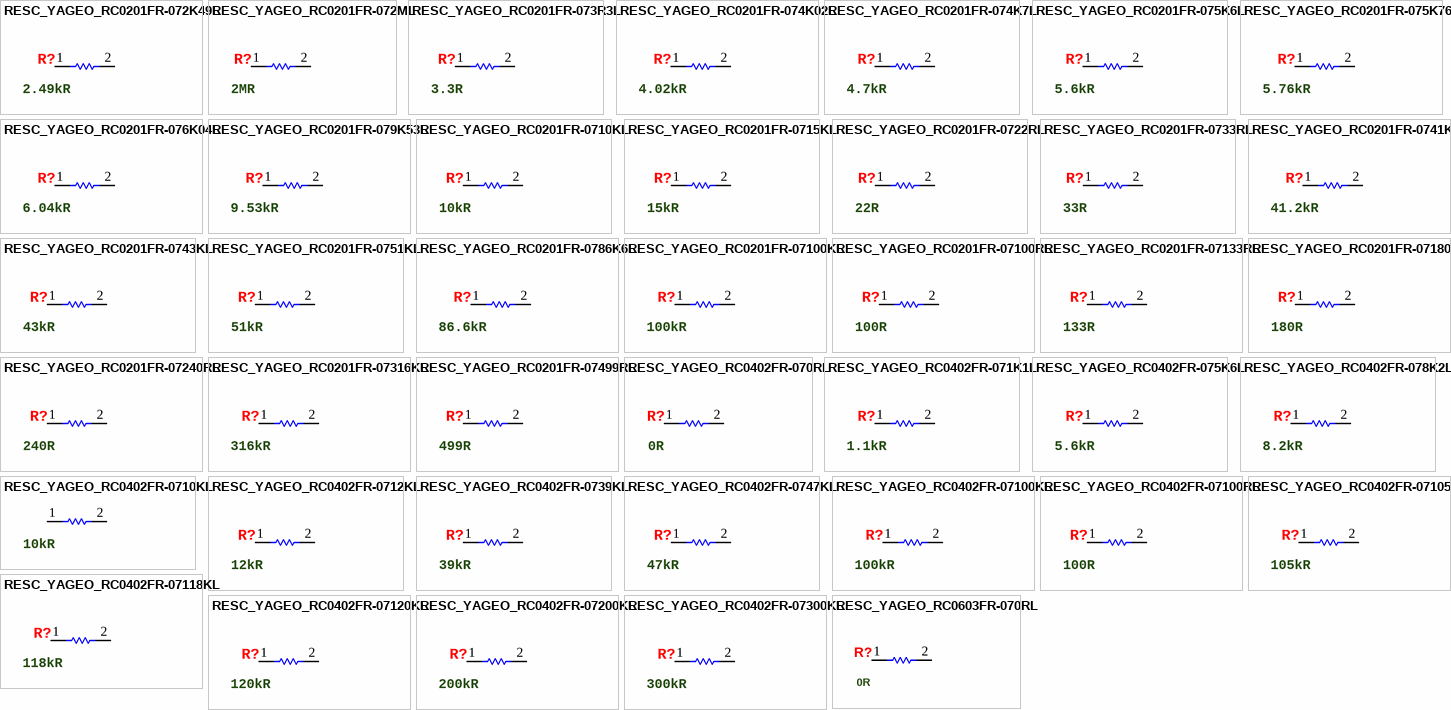
[diagram p1: symbols RESC_YAGEO_RC0201FR-072K49L to RESC_YAGEO_RC0603FR-070RL]

## RESC_YAGEO_RC0201FR-072K49L
designator R?, comment 2.49kR
2.49 kOhms ±1% 0.05W, 1/20W Chip Resistor 0201 (0603 Metric) Moisture Resistant Thick Film; Manufacturer: Yageo; Manufacturer Part Number: RC0201FR-072K49L; Power Rating: 50mW; Temperature Coefficient: 200ppm/°C; Current Rating: 500mA; Voltage Rating (DC): 25V; Category: Chip SMD Resistors; Case/Package: 0201; Min Operating Temperature: -55°C; Max Operating Temperature: 125°C; Tolerance: 1%; Resistance: 2.49kR; Resistor Type: Thick Film; RoHS Compliant: Yes; ComponentLink1URL: https://www.yageo.com/upload/media/product/productsearch/datasheet/rchip/PYu-RC_Group_51_RoHS_L_12.pdf; ComponentLink1Description: Datasheet; Supplier 1: Digi-Key; Supplier 2: Mouser; Supplier Part Number 1: YAG2338CT-ND; Supplier Part Number 2: 603-RC0201FR-072K49L; Mounting Type: SMD/SMT
footprint RESC0603X26N (Chip Resistor, EIA 0201, Metric 0603, Body 0.60x0.30mm, IPC Medium Density)
footprint RESC0603X26L (Chip Resistor, EIA 0201, Metric 0603, Body 0.60x0.30mm, IPC High Density)
footprint RESC0603X26M (Chip Resistor, EIA 0201, Metric 0603, Body 0.60x0.30mm, IPC Low Density)
simulation model Resistor (Model Description)
pins: 1, 2

## RESC_YAGEO_RC0201FR-072ML
designator R?, comment 2MR
2 MOhms ±1% 0.05W, 1/20W Chip Resistor 0201 (0603 Metric) Moisture Resistant Thick Film; Manufacturer: Yageo; Manufacturer Part Number: RC0201FR-072ML; Temperature Coefficient: 200ppm/°C; Current Rating: 500mA; Power Rating: 50mW; Voltage Rating (DC): 25V; Category: Chip SMD Resistors; Case/Package: 0201; Min Operating Temperature: -55°C; Max Operating Temperature: 125°C; Resistance: 2MR; Resistor Type: Thick Film; Tolerance: 1%; RoHS Compliant: Yes; ComponentLink1URL: https://www.yageo.com/upload/media/product/productsearch/datasheet/rchip/PYu-RC_Group_51_RoHS_L_12.pdf; ComponentLink1Description: Datasheet; Supplier 1: Digi-Key; Supplier 2: Mouser; Supplier Part Number 1: 13-RC0201FR-072MLCT-ND; Supplier Part Number 2: 603-RC0201FR-072ML; Mounting Type: SMD/SMT
footprint RESC0603X26N (Chip Resistor, EIA 0201, Metric 0603, Body 0.60x0.30mm, IPC Medium Density)
footprint RESC0603X26L (Chip Resistor, EIA 0201, Metric 0603, Body 0.60x0.30mm, IPC High Density)
footprint RESC0603X26M (Chip Resistor, EIA 0201, Metric 0603, Body 0.60x0.30mm, IPC Low Density)
simulation model Resistor (Model Description)
pins: 1, 2

## RESC_YAGEO_RC0201FR-073R3L
designator R?, comment 3.3R
3.3 Ohms ±1% 0.05W, 1/20W Chip Resistor 0201 (0603 Metric) Moisture Resistant Thick Film; Manufacturer: Yageo; Manufacturer Part Number: RC0201FR-073R3L; Power Rating: 50mW; Temperature Coefficient: 350ppm/°C; Current Rating: 500mA; Voltage Rating (DC): 25V; Category: Chip SMD Resistors; Case/Package: 0201; Min Operating Temperature: -55°C; Max Operating Temperature: 125°C; Resistance: 3.3R; Tolerance: 1%; Resistor Type: Thick Film; RoHS Compliant: Yes; ComponentLink1URL: https://www.yageo.com/upload/media/product/productsearch/datasheet/rchip/PYu-RC_Group_51_RoHS_L_12.pdf; ComponentLink1Description: Datasheet; Supplier 1: Digi-Key; Supplier 2: Mouser; Supplier Part Number 1: 13-RC0201FR-073R3LCT-ND; Supplier Part Number 2: 603-RC0201FR-073R3L; Mounting Type: SMD/SMT
footprint RESC0603X26N (Chip Resistor, EIA 0201, Metric 0603, Body 0.60x0.30mm, IPC Medium Density)
footprint RESC0603X26L (Chip Resistor, EIA 0201, Metric 0603, Body 0.60x0.30mm, IPC High Density)
footprint RESC0603X26M (Chip Resistor, EIA 0201, Metric 0603, Body 0.60x0.30mm, IPC Low Density)
simulation model Resistor (Model Description)
pins: 1, 2

## RESC_YAGEO_RC0201FR-074K02L
designator R?, comment 4.02kR
4.02 kOhms ±1% 0.05W, 1/20W Chip Resistor 0201 (0603 Metric) Moisture Resistant Thick Film; Manufacturer: Yageo; Manufacturer Part Number: RC0201FR-074K02L; Temperature Coefficient: 200ppm/°C; Current Rating: 500mA; Power Rating: 50mW; Voltage Rating (DC): 25V; Category: Chip SMD Resistors; Case/Package: 0201; Min Operating Temperature: -55°C; Max Operating Temperature: 125°C; Resistance: 4.02kR; Tolerance: 1%; Resistor Type: Thick Film; RoHS Compliant: Yes; ComponentLink1URL: https://www.yageo.com/upload/media/product/productsearch/datasheet/rchip/PYu-RC_Group_51_RoHS_L_12.pdf; ComponentLink1Description: Datasheet; Supplier 1: Digi-Key; Supplier 2: Mouser; Supplier Part Number 1: YAG2287CT-ND; Supplier Part Number 2: 603-RC0201FR-074K02L; Mounting Type: SMD/SMT
footprint RESC0603X26N (Chip Resistor, EIA 0201, Metric 0603, Body 0.60x0.30mm, IPC Medium Density)
footprint RESC0603X26L (Chip Resistor, EIA 0201, Metric 0603, Body 0.60x0.30mm, IPC High Density)
footprint RESC0603X26M (Chip Resistor, EIA 0201, Metric 0603, Body 0.60x0.30mm, IPC Low Density)
simulation model Resistor (Model Description)
pins: 1, 2

## RESC_YAGEO_RC0201FR-074K7L
designator R?, comment 4.7kR
4.7 kOhms ±1% 0.05W, 1/20W Chip Resistor 0201 (0603 Metric) Moisture Resistant Thick Film; Manufacturer: Yageo; Manufacturer Part Number: RC0201FR-074K7L; Temperature Coefficient: 200ppm/°C; Power Rating: 50mW; Current Rating: 500mA; Voltage Rating (DC): 25V; Category: Chip SMD Resistors; Case/Package: 0201; Min Operating Temperature: -55°C; Max Operating Temperature: 125°C; Resistance: 4.7kR; Tolerance: 1%; Resistor Type: Thick Film; RoHS Compliant: Yes; ComponentLink1URL: https://www.yageo.com/upload/media/product/productsearch/datasheet/rchip/PYu-RC_Group_51_RoHS_L_12.pdf; ComponentLink1Description: Datasheet; Supplier 1: Digi-Key; Supplier 2: Mouser; Supplier Part Number 1: 311-4.70KMCT-ND; Supplier Part Number 2: 603-RC0201FR-074K7L; Mounting Type: SMD/SMT
footprint RESC0603X26N (Chip Resistor, EIA 0201, Metric 0603, Body 0.60x0.30mm, IPC Medium Density)
footprint RESC0603X26L (Chip Resistor, EIA 0201, Metric 0603, Body 0.60x0.30mm, IPC High Density)
footprint RESC0603X26M (Chip Resistor, EIA 0201, Metric 0603, Body 0.60x0.30mm, IPC Low Density)
simulation model Resistor (Model Description)
pins: 1, 2

## RESC_YAGEO_RC0201FR-075K6L
designator R?, comment 5.6kR
5.6 kOhms ±1% 0.05W, 1/20W Chip Resistor 0201 (0603 Metric) Moisture Resistant Thick Film; Manufacturer: Yageo; Manufacturer Part Number: RC0201FR-075K6L; Power Rating: 50mW; Temperature Coefficient: 200ppm/°C; Current Rating: 500mA; Voltage Rating (DC): 25V; Category: Chip SMD Resistors; Case/Package: 0201; Min Operating Temperature: -55°C; Max Operating Temperature: 125°C; Resistance: 5.6kR; Tolerance: 1%; Resistor Type: Thick Film; RoHS Compliant: Yes; ComponentLink1URL: https://www.yageo.com/upload/media/product/productsearch/datasheet/rchip/PYu-RC_Group_51_RoHS_L_12.pdf; ComponentLink1Description: Datasheet; Supplier 1: Digi-Key; Supplier 2: Mouser; Supplier Part Number 1: YAG2346CT-ND; Supplier Part Number 2: 603-RC0201FR-075K6L; Mounting Type: SMD/SMT
footprint RESC0603X26N (Chip Resistor, EIA 0201, Metric 0603, Body 0.60x0.30mm, IPC Medium Density)
footprint RESC0603X26L (Chip Resistor, EIA 0201, Metric 0603, Body 0.60x0.30mm, IPC High Density)
footprint RESC0603X26M (Chip Resistor, EIA 0201, Metric 0603, Body 0.60x0.30mm, IPC Low Density)
simulation model Resistor (Model Description)
pins: 1, 2